# Altium schematic symbol library Schematic_Test_Points.SchLib: 1 symbol
Pins are listed as number, name and electrical type; pins without a type are passive.

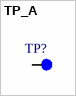
[diagram p0: symbol TP_A]

## TP_A
designator TP?, comment TP  (value not drawn)
Test Point dot type
pins: 1